# EAGLE library part ATTINY1634-SU (library mcu)
IC, 8-bit Atmel tinyAVR Microcontroller with 16K Bytes In-System Programmable Flash,SOIC-20
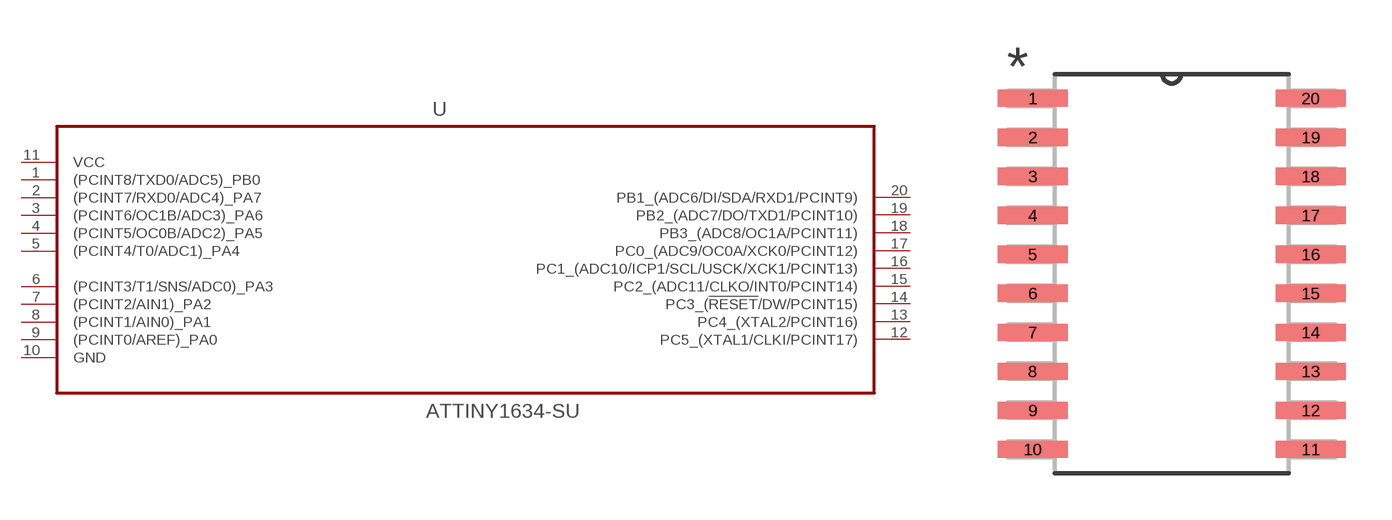
[diagram p0: symbol with the pads of SOIC20; footprint SOIC20]

Designator prefix U

## ATTINY1634-SU (MPN: ATTINY1634-SU; OC_FARNELL: Unknown; OC_NEWARK: 24W8419; PACKAGE: SOIC-20; SUPPLIER: ATMEL)  [SOIC20]
1  (PCINT8/TXD0/ADC5)_PB0
2  (PCINT7/RXD0/ADC4)_PA7
3  (PCINT6/OC1B/ADC3)_PA6
4  (PCINT5/OC0B/ADC2)_PA5
5  (PCINT4/T0/ADC1)_PA4
6  (PCINT3/T1/SNS/ADC0)_PA3
7  (PCINT2/AIN1)_PA2
8  (PCINT1/AIN0)_PA1
9  (PCINT0/AREF)_PA0
10  GND  pwr
11  VCC  pwr
12  PC5_(XTAL1/CLKI/PCINT17)
13  PC4_(XTAL2/PCINT16)
14  PC3_(!RESET!/DW/PCINT15)
15  PC2_(ADC11/CLKO/INT0/PCINT14)
16  PC1_(ADC10/ICP1/SCL/USCK/XCK1/PCINT13)
17  PC0_(ADC9/OC0A/XCK0/PCINT12)
18  PB3_(ADC8/OC1A/PCINT11)
19  PB2_(ADC7/DO/TXD1/PCINT10)
20  PB1_(ADC6/DI/SDA/RXD1/PCINT9)

## Footprint SOIC20 (pad centres in mm)
smd 2.286 x 0.559: 1 -4.521,5.715; 2 -4.521,4.445; 3 -4.521,3.175; 4 -4.521,1.905; 5 -4.521,0.635; 6 -4.521,-0.635; 7 -4.521,-1.905; 8 -4.521,-3.175; 9 -4.521,-4.445; 10 -4.521,-5.715; 11 4.521,-5.715; 12 4.521,-4.445; 13 4.521,-3.175; 14 4.521,-1.905; 15 4.521,-0.635; 16 4.521,0.635; 17 4.521,1.905; 18 4.521,3.175; 19 4.521,4.445; 20 4.521,5.715